# Altium footprint library ZMBo Footprint Library.PcbLib: 74 footprints (part 2 of 5)
Each footprint in its own frame and in the unit in brackets; x right, y up, seen from the top. Pads: shape width x height; smd on the part's side, far side on the other; paste and mask are expansions set on the pad; w line width, h text height; cw(c..) or ccw(c..) is an arc to the next point about the centre after c.
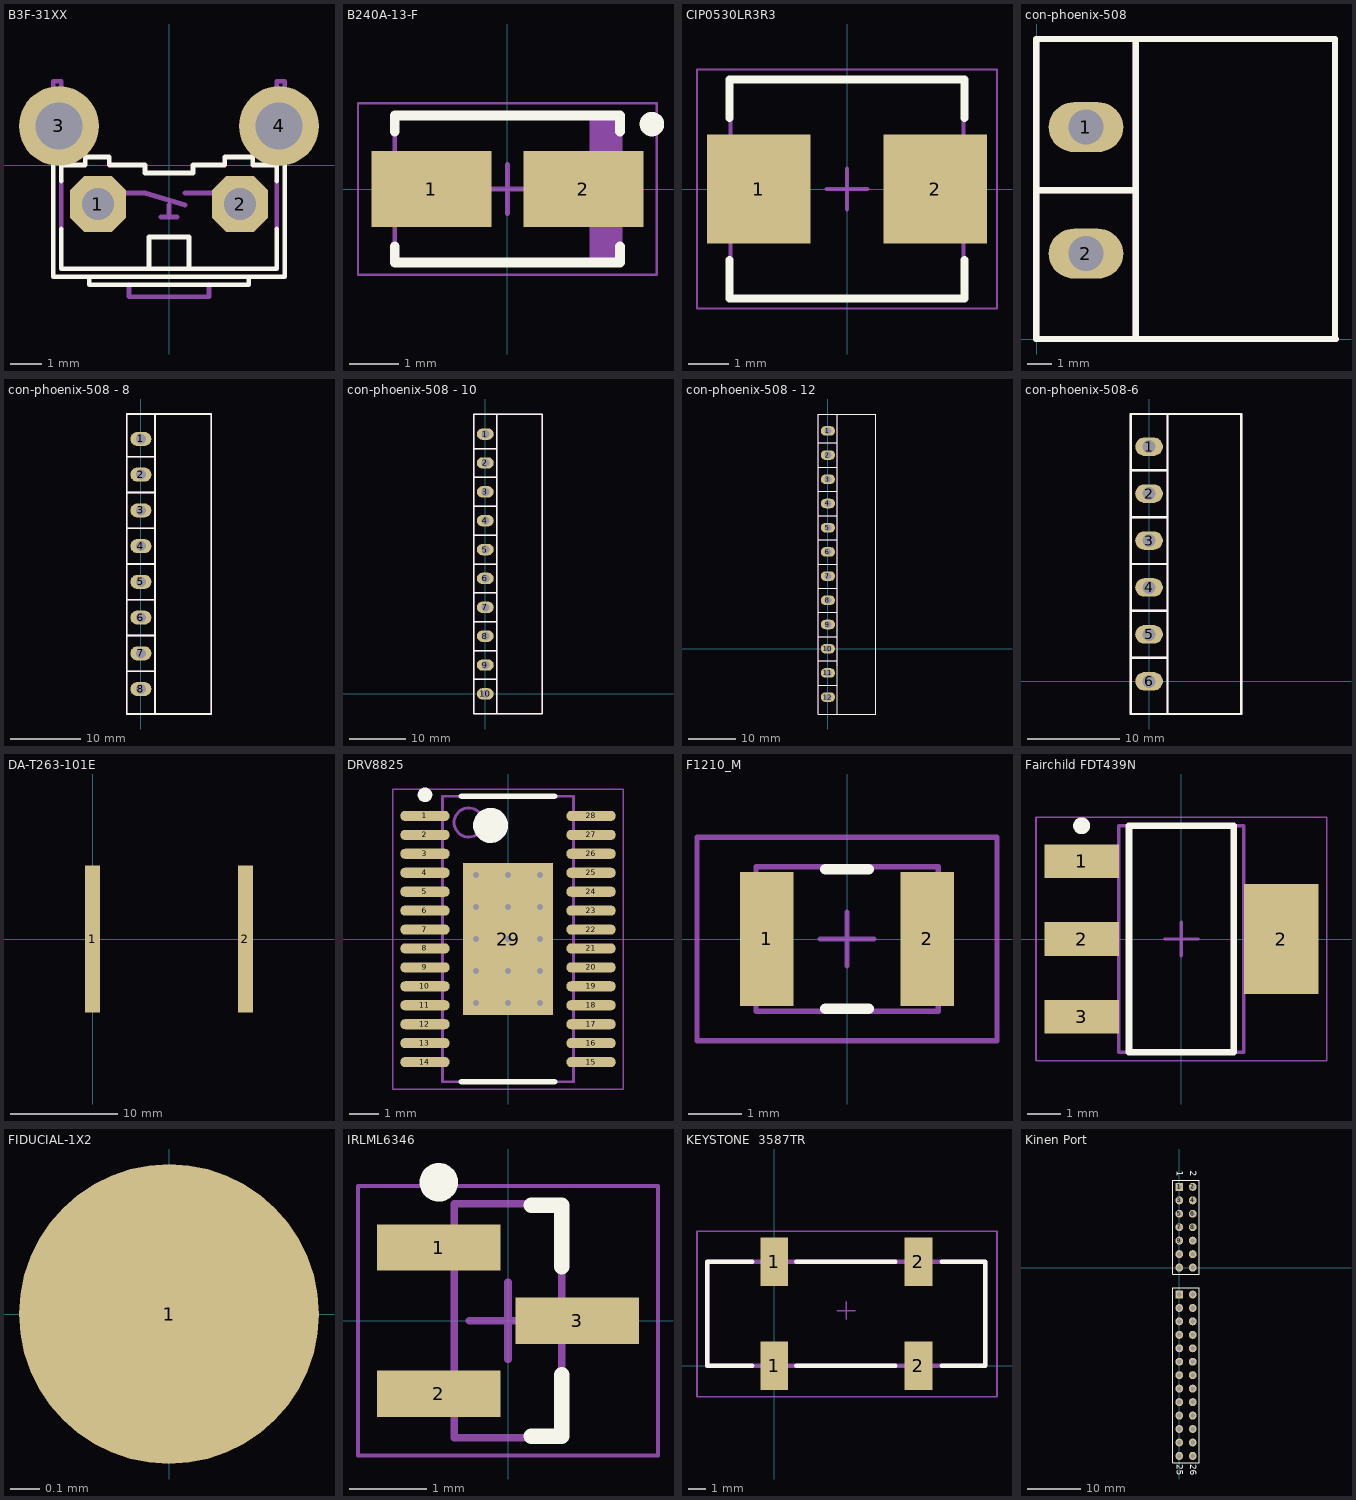
[diagram p1: the footprints below, top view; thin cyan lines are the x and y axes]

## B3F-31XX [mil]
pads (4):
  oct 70x70 hole 40: 1(-89,-49) 2(89,-49)
  round 100 hole 59: 3(-138,49) 4(138,49)
Top Overlay:
  lines w6: -145,0 -145,-140 100,-140 ; -135,-80 -135,-130 -25,-130 ; -135,-20 -135,0 -105,0 -105,10 -75,10 -75,0 -30,0 -30,-10 30,-10 30,0 70,0 70,10 105,10 105,0 135,0 135,-20 ; -100,-140 -100,-150 -50,-150 50,-150 100,-150 100,-140 ; 135,-80 135,-130 25,-130 ; 145,0 145,-140 100,-140 ; -25,-130 -25,-90 25,-90 25,-130 ; -25,-130 25,-130
Mechanical 8:
  lines w6: -145,0 -145,105 -135,105 -135,0 ; -135,-80 -135,-20 ; -65,-35 -30,-35 20,-50 ; -50,-150 -50,-165 50,-165 50,-150 ; -10,-65 0,-65 ; 0,-50 0,-65 ; 10,-65 0,-65 ; 20,-35 65,-35 ; 135,-80 135,-20 ; 135,0 135,105 145,105 145,0
3D body: height 303.15, standoff -137.8, extent -165.35,-200 165.35,109.06

## B240A-13-F [mm] "Molded Diode, 2-Leads, Body 4.30x2.60mm, IPC Medium Density"
height 2.3
pads (2):
  rect 2.45x1.55 smd: 1(-1.55,0) 2(1.55,0)
Top Overlay:
  circle w0.25: c2.95,1.325 r0.125
  lines w0.2: -2.3,-1.175 -2.3,-1.5 2.3,-1.5 2.3,-1.175 ; -2.3,1.175 -2.3,1.5 2.3,1.5 2.3,1.175
Mechanical 13:
  rectangle: 1.681,-1.46 2.3,1.46
  lines w0.1: -2.3,-1.46 2.3,-1.46 2.3,1.46 -2.3,1.46 -2.3,-1.46
Mechanical 15:
  lines w0.05: -3.05,-1.75 3.05,-1.75 3.05,1.75 -3.05,1.75 -3.05,-1.75
  lines w0.1: -0.5,0 0.5,0 ; 0,-0.5 0,0.5
3D body: height 2.3, standoff 0, extent -2.3,-1.46 2.3,1.46

## CIP0530LR3R3 [mm] "Precision Wire Wound Inductor, 2-Leads, Body 5.58x5.30mm, IPC Medium Density"
height 2.29
pads (2):
  rect 2.55x2.7 smd: 1(-2.175,0) 2(2.175,0)
Top Overlay:
  lines w0.2: -2.9,-1.75 -2.9,-2.7 2.9,-2.7 2.9,-1.75 ; -2.9,1.75 -2.9,2.7 2.9,2.7 2.9,1.75
Mechanical 13:
  lines w0.1: -2.875,-2.7 -2.875,2.7 2.875,2.7 2.875,-2.7 -2.875,-2.7
Mechanical 15:
  lines w0.05: -3.7,-2.95 -3.7,2.95 3.7,2.95 3.7,-2.95 -3.7,-2.95
  lines w0.1: -0.5,0 0.5,0 ; 0,-0.5 0,0.5
3D body: height 2.29, standoff 0, extent -2.875,-2.7 2.875,2.7

## con-phoenix-508 [mm] "con-phoenix-508"
pads (2):
  oval 3x2 hole 1.4: 1(1.968,8.509) 2(1.968,3.429)
Top Overlay:
  lines w0.254: -0.032,0 -0.032,12.049 11.968,12.049 11.968,0 ; -0.032,5.969 3.968,5.969 3.968,0 ; 0,0 12.001,0 ; 3.968,5.842 3.968,12.017
Mechanical 1:
  lines w0.254: -0.032,0 -0.032,12.049 11.968,12.049 11.968,0 ; -0.032,5.969 3.968,5.969 3.968,0 ; 0,0 12.001,0 ; 3.968,5.842 3.968,12.017

## con-phoenix-508 - 8 [mm] "con-phoenix-508"
pads (8):
  oval 3x2 hole 1.4: 1(0,45.72) 2(0,40.64) 3(0,35.56) 4(0,30.48) 5(0,25.4) 6(0,20.32) 7(0,15.24) 8(0,10.16)
Top Overlay:
  lines w0.254: -2,17.78 2,17.78 ; -2,22.86 2,22.86 ; -2,27.94 2,27.94 ; -2,33.02 2,33.02 ; -2,38.1 2,38.1 ; -2,43.18 2,43.18 ; 2,6.62 2,16.78 2,49.26 ; -2,6.62 10,6.62 10,16.78 10,49.26 -2,49.26 -2,16.78 -2,6.62 ; -2,12.7 2,12.7 -2,12.7
Mechanical 1:
  lines w0.254: -2,12.7 2,12.7 ; -2,17.78 2,17.78 ; -2,27.94 2,27.94 ; -2,33.02 2,33.02 ; -2,38.1 2,38.1 ; -2,43.18 2,43.18 ; 2,6.62 2,16.78 2,49.26 ; -2,6.62 -2,16.78 -2,49.26 10,49.26 10,16.78 10,6.62 -2,6.62 ; -2,22.86 2,22.86 -2,22.86

## con-phoenix-508 - 10 [mm] "con-phoenix-508"
pads (10):
  oval 3x2 hole 1.4: 1(0,45.72) 2(0,40.64) 3(0,35.56) 4(0,30.48) 5(0,25.4) 6(0,20.32) 7(0,15.24) 8(0,10.16) 9(0,5.08) 10(0,0)
Top Overlay:
  lines w0.254: -2,2.54 2,2.54 ; -2,7.62 2,7.62 ; -2,12.7 2,12.7 ; -2,17.78 2,17.78 ; -2,22.86 2,22.86 ; -2,27.94 2,27.94 ; -2,33.02 2,33.02 ; -2,38.1 2,38.1 ; -2,43.18 2,43.18 ; 2,-3.508 2,16.78 2,49.26 ; -2,-3.54 -2,16.78 -2,49.26 10,49.26 10,16.78 10,-3.54 -2,-3.54
Mechanical 1:
  lines w0.254: -2,2.54 2,2.54 ; -2,7.62 2,7.62 ; -2,12.7 2,12.7 ; -2,17.78 2,17.78 ; -2,27.94 2,27.94 ; -2,33.02 2,33.02 ; -2,38.1 2,38.1 ; -2,43.18 2,43.18 ; 2,-3.508 2,16.78 2,49.26 ; -2,-3.54 10,-3.54 10,16.78 10,49.26 -2,49.26 -2,16.78 -2,-3.54 ; -2,22.86 2,22.86 -2,22.86

## con-phoenix-508 - 12 [mm] "con-phoenix-508"
pads (12):
  oval 3x2 hole 1.4: 1(0,45.72) 2(0,40.64) 3(0,35.56) 4(0,30.48) 5(0,25.4) 6(0,20.32) 7(0,15.24) 8(0,10.16) 9(0,5.08) 10(0,0) 11(0,-5.08) 12(0,-10.16)
Top Overlay:
  lines w0.254: -2,-7.62 2,-7.62 ; -2,-2.54 2,-2.54 ; -2,2.54 2,2.54 ; -2,7.62 2,7.62 ; -2,12.7 2,12.7 ; -2,17.78 2,17.78 ; -2,22.86 2,22.86 ; -2,27.94 2,27.94 ; -2,33.02 2,33.02 ; -2,38.1 2,38.1 ; -2,43.18 2,43.18 ; 2,-13.7 2,16.78 2,49.26 ; -2,-13.7 10,-13.7 10,16.78 10,49.26 -2,49.26 -2,16.78 -2,-13.7
Mechanical 1:
  lines w0.254: -2,-7.62 2,-7.62 ; -2,-2.54 2,-2.54 ; -2,2.54 2,2.54 ; -2,7.62 2,7.62 ; -2,12.7 2,12.7 ; -2,17.78 2,17.78 ; -2,27.94 2,27.94 ; -2,33.02 2,33.02 ; -2,38.1 2,38.1 ; -2,43.18 2,43.18 ; 2,-3.508 2,16.78 2,49.26 ; 10,-13.7 -2,-13.7 -2,16.78 -2,49.26 10,49.26 10,16.78 10,-3.54 ; -2,22.86 2,22.86 -2,22.86

## con-phoenix-508-6 [mm] "con-phoenix-508"
pads (6):
  oval 3x2 hole 1.4: 1(0,25.4) 2(0,20.32) 3(0,15.24) 4(0,10.16) 5(0,5.08) 6(0,0)
Top Overlay:
  lines w0.254: -2,2.54 2,2.54 ; -2,7.62 2,7.62 ; -2,12.7 2,12.7 ; -2,17.78 2,17.78 ; -2,22.86 2,22.86 ; 2,-3.54 2,28.94 ; -2,-3.54 -2,28.94 10,28.94 10,-3.54 -2,-3.54
Mechanical 1:
  lines w0.254: -2,2.54 2,2.54 ; -2,7.62 2,7.62 ; -2,12.7 2,12.7 ; -2,17.78 2,17.78 ; -2,22.86 2,22.86 ; 2,-3.54 2,28.94 ; -2,-3.54 10,-3.54 10,28.94 -2,28.94 -2,-3.54

## DA-T263-101E [mm]
pads (2):
  rect 1.4x13.7 smd: 1(0,0) 2(14.2,0)

## DRV8825 [mm] "TSOP, 28-Leads, Body 9.70x4.40mm, Pitch 0.65mm, Thermal Pad 5.22.2x3.10.2mm, IPC Medium Density"
height 1.2
pads (29):
  oval 1.7x0.35 smd: 1(-2.85,4.225) 2(-2.85,3.575) 3(-2.85,2.925) 4(-2.85,2.275) 5(-2.85,1.625) 6(-2.85,0.975) 7(-2.85,0.325) 8(-2.85,-0.325) 9(-2.85,-0.975) 10(-2.85,-1.625) 11(-2.85,-2.275) 12(-2.85,-2.925) 13(-2.85,-3.575) 14(-2.85,-4.225) 15(2.85,-4.225) 16(2.85,-3.575) 17(2.85,-2.925) 18(2.85,-2.275) 19(2.85,-1.625) 20(2.85,-0.975) 21(2.85,-0.325) 22(2.85,0.325) 23(2.85,0.975) 24(2.85,1.625) 25(2.85,2.275) 26(2.85,2.925) 27(2.85,3.575) 28(2.85,4.225)
  rect 3.1x5.22 smd: 29(0,0)
via 1.1,-2.2 diameter 0.5 hole 0.2
via 0,-2.2 diameter 0.5 hole 0.2
via -1.1,-2.2 diameter 0.5 hole 0.2
via 1.1,-1.1 diameter 0.5 hole 0.2
via 0,-1.1 diameter 0.5 hole 0.2
via -1.1,-1.1 diameter 0.5 hole 0.2
via 1.1,0 diameter 0.5 hole 0.2
via 0,0 diameter 0.5 hole 0.2
via -1.1,0 diameter 0.5 hole 0.2
via 1.1,1.1 diameter 0.5 hole 0.2
via 0,1.1 diameter 0.5 hole 0.2
via -1.1,1.1 diameter 0.5 hole 0.2
via 1.1,2.2 diameter 0.5 hole 0.2
via 0,2.2 diameter 0.5 hole 0.2
via -1.1,2.2 diameter 0.5 hole 0.2
Top Overlay:
  circle w0.6: c-0.6,3.9 r0.3
  circle w0.25: c-2.85,4.95 r0.125
  lines w0.2: -1.6,-4.9 1.6,-4.9 ; -1.6,4.9 1.6,4.9
Mechanical 13:
  circle w0.1: c-1.35,4 r0.5
  lines w0.1: -2.25,-4.9 2.25,-4.9 2.25,4.9 -2.25,4.9 -2.25,-4.9
Mechanical 15:
  lines w0.05: -3.95,-5.15 3.95,-5.15 3.95,5.15 -3.95,5.15 -3.95,-5.15
  lines w0.1: -0.5,0 0.5,0 ; 0,-0.5 0,0.5
3D body: height 1.2, standoff 0.1, extent -2.25,-4.9 2.25,4.9

## F1210_M [mm] "Bournes PTC Fuse"
height 1.5
pads (2):
  rect 1x2.5 smd: 1(-1.5,0) 2(1.5,0)
Top Overlay:
  lines w0.2: -0.4,-1.3 0.4,-1.3 ; -0.4,1.3 0.4,1.3
Mechanical 13:
  lines w0.1: -1.7,-1.35 -1.7,1.35 1.7,1.35 1.7,-1.35 -1.7,-1.35
Mechanical 15:
  lines w0.1: -0.5,0 0.5,0 ; 0,-0.5 0,0.5 ; -2.8,-1.9 -2.8,1.9 2.8,1.9 2.8,-1.9 -2.8,-1.9
3D body: height 0.85, standoff 0, extent -1.7,-1.35 1.7,1.4

## Fairchild FDT439N [mm] "SOT223, 4-Leads, Body 6.60x7.08mm (avg), Pitch 2.30mm, IPC Medium Density"
height 1.6
pads (4):
  rect 2.2x1 smd: 1(-2.95,2.3) 2(-2.95,0) 3(-2.95,-2.3)
  rect 2.2x3.25 smd: 2(2.95,0)
Top Overlay:
  circle w0.25: c-2.95,3.35 r0.125
  lines w0.2: -1.55,-3.35 -1.55,3.35 1.55,3.35 1.55,-3.35 -1.55,-3.35
Mechanical 13:
  lines w0.1: -1.85,-3.35 -1.85,3.35 1.85,3.35 1.85,-3.35 -1.85,-3.35
Mechanical 15:
  lines w0.05: -4.3,-3.6 -4.3,3.6 4.3,3.6 4.3,-3.6 -4.3,-3.6
  lines w0.1: -0.5,0 0.5,0 ; 0,-0.5 0,0.5
3D body: height 1.6, standoff 0.06, extent -1.85,-3.35 1.85,3.35

## FIDUCIAL-1X2 [mil]
pads (1):
  rrect100% 40x40 smd paste-3897.64 mask+20: 1(0,0)
3D body: height 0.39, standoff 0, extent -39.68,-39.91 40.01,39.93
3D body: height 0.79, standoff 0, extent -19.84,-19.96 20.01,19.97

## IRLML6346 [mm] "SOT23, 3-Leads, Body 2.92x2.37mm, Pitch 0.95mm, IPC Medium Density"
height 1.12
pads (3):
  rect 1.6x0.6 smd: 1(-0.9,0.95) 2(-0.9,-0.95) 3(0.9,0)
Top Overlay:
  circle w0.25: c-0.9,1.8 r0.125
  lines w0.2: 0.3,-1.5 0.7,-1.5 0.7,-0.7 ; 0.3,1.5 0.7,1.5 0.7,0.7
Mechanical 13:
  lines w0.1: -0.7,-1.52 -0.7,1.52 0.7,1.52 0.7,-1.52 -0.7,-1.52
Mechanical 15:
  lines w0.05: -1.95,-1.75 -1.95,1.75 1.95,1.75 1.95,-1.75 -1.95,-1.75
  lines w0.1: -0.5,0 0.5,0 ; 0,-0.5 0,0.5
3D body: height 1.12, standoff 0.1, extent -0.7,-1.52 0.7,1.52

## KEYSTONE  3587TR [mm] "KEYSTONE  3587TR  Automotive FUse Holder"
pads (4):
  rect 1.6x2.8 smd: 1(0,0) 1(0,6) 2(8.3,0) 2(8.3,6)
Top Overlay:
  lines w0.254: -1.27,0 -3.85,0 -3.85,6 -1.27,6 ; 1.27,0 6.985,0 ; 1.27,6 6.985,6 ; 9.652,0 12.15,0 12.15,6 9.652,6
Mechanical 1:
  lines w0.254: -3.85,0 -3.85,6 12.15,6 12.15,0 -3.85,0
Mechanical 15:
  lines w0.1: 3.65,3.175 4.65,3.175 ; 4.15,2.675 4.15,3.675 ; -4.445,-1.778 -4.445,7.747 12.827,7.747 12.827,-1.778 -4.445,-1.778
3D body: height 7.4, standoff 0, extent -3.81,0 12.192,5.969

## Kinen Port [mm] "Synthetos Kinen Expansion Port Socket"
pads (40):
  rect 1.5x1.5 hole 0.9: 1(0,15.24) 15(0,-5.08)
  round 1.5 hole 0.9: 2(2.54,15.24) 3(0,12.7) 4(2.54,12.7) 5(0,10.16) 6(2.54,10.16) 7(0,7.62) 8(2.54,7.62) 9(0,5.08) 10(2.54,5.08) 11(0,2.54) 12(2.54,2.54) 13(0,0) 14(2.54,0) 16(2.54,-5.08) 17(0,-7.62) 18(2.54,-7.62) 19(0,-10.16) 20(2.54,-10.16) 21(0,-12.7) 22(2.54,-12.7) 23(0,-15.24) 24(2.54,-15.24) 25(0,-17.78) 26(2.54,-17.78) 27(0,-20.32) 28(2.54,-20.32) 29(0,-22.86) 30(2.54,-22.86) 31(0,-25.4) 32(2.54,-25.4) 33(0,-27.94) 34(2.54,-27.94) 35(0,-30.48) 36(2.54,-30.48) 37(0,-33.02) 38(2.54,-33.02) 39(0,-35.56) 40(2.54,-35.56)
Top Overlay:
  lines w0.2: -1.27,-36.83 3.81,-36.83 3.81,-3.81 -1.27,-3.81 -1.27,-36.83 ; -1.27,-1.27 3.81,-1.27 3.81,16.51 -1.27,16.51 -1.27,-1.27
  text "25" at -0.508,-37.084 h1.27
  text "26" at 2.032,-37.084 h1.27
  text "2" at 2.032,18.288 h1.27
  text "1" at -0.508,18.288 h1.27